# EAGLE library part STEPPER-A4988 (library co-pololu)
Pololu A4988-type based stepper module Green: #2975 https://www.pololu.com/product/2975 #2980 https://www.pololu.com/product/2980 #2985 https://www.pololu.com/product/2985 Black (High-Performance): #2976 https://www.pololu.com/product/2976 #2981 https://www.pololu.com/product/2981 #2986 https://www.pololu.com/product/2986
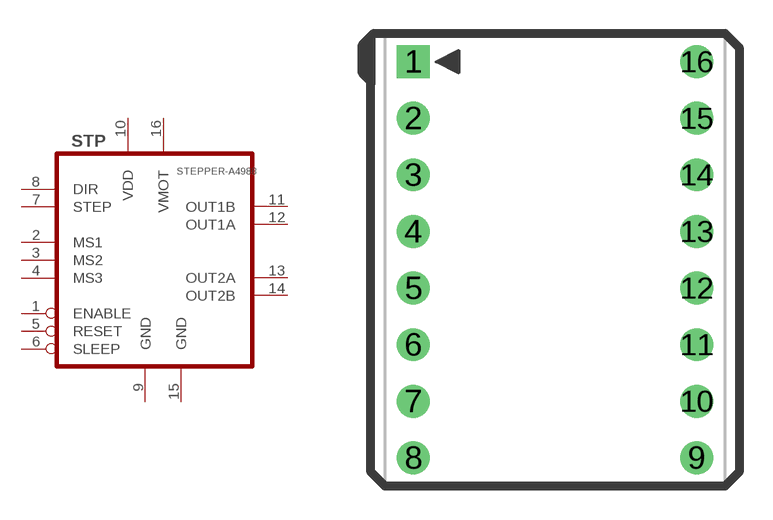
[diagram p0: symbol with the pads of STEPPER_0608; footprint STEPPER_0608]

Designator prefix STP

## STEPPER-A4988GREEN (MFR: Pololu; VALUE: 2975)  [STEPPER_0608]
1  ENABLE
2  MS1
3  MS2
4  MS3
5  RESET
6  SLEEP
7  STEP
8  DIR
9  GND
10  VDD
11  OUT1B
12  OUT1A
13  OUT2A
14  OUT2B
15  GND
16  VMOT

## STEPPER-A4988BLACK (MFR: Pololu; VALUE: 2976)  [STEPPER_0608]
Pads as for STEPPER_0608

## Footprint STEPPER_0608 (pad centres in mm)
Pololu 0.6" x 0.8" stepper carrier
drill 0.965 square: 1 -6.35,8.89
drill 0.965: 2 -6.35,6.35; 3 -6.35,3.81; 4 -6.35,1.27; 5 -6.35,-1.27; 6 -6.35,-3.81; 7 -6.35,-6.35; 8 -6.35,-8.89; 9 6.35,-8.89; 10 6.35,-6.35; 11 6.35,-3.81; 12 6.35,-1.27; 13 6.35,1.27; 14 6.35,3.81; 15 6.35,6.35; 16 6.35,8.89